# Altium footprint library X2-DFN1410-6.PcbLib: 1 footprints
Each footprint in its own frame and in the unit in brackets; x right, y up, seen from the top. Pads: shape width x height; smd on the part's side, far side on the other; paste and mask are expansions set on the pad; w line width, h text height; cw(c..) or ccw(c..) is an arc to the next point about the centre after c.
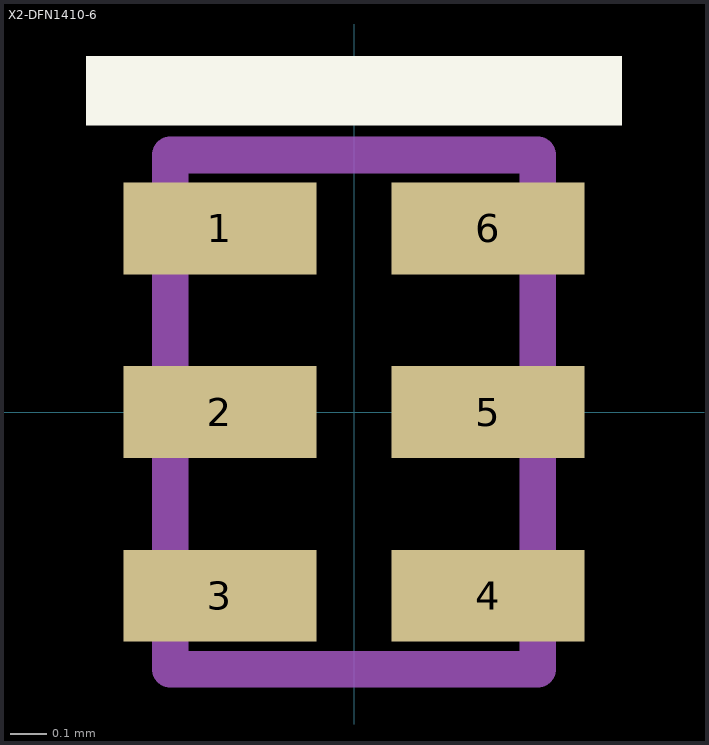
[diagram p0: the footprint, top view; thin cyan lines are the x and y axes]

## X2-DFN1410-6 [mm] "1.4x1.0mm"
height 0.4
pads (6):
  rect 0.525x0.25 smd: 1(-0.365,0.5) 2(-0.365,0) 3(-0.365,-0.5) 4(0.365,-0.5) 5(0.365,0) 6(0.365,0.5)
Top Overlay:
  rectangle: -0.73,0.78 0.73,0.97
Mechanical 1:
  lines w0.1: -0.5,-0.7 -0.5,0.7 0.5,0.7 0.5,-0.7 -0.5,-0.7
3D body: height 0.4, standoff 0.02, extent -0.5,-0.7 0.5,0.7